# EAGLE library part CVCO55BE (library mr_radar)
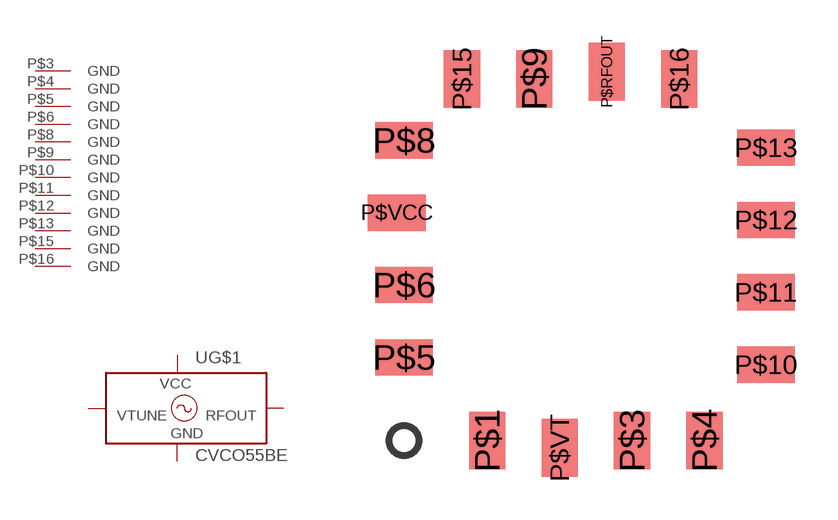
[diagram p0: symbol with the pads of CVCO55BE; footprint CVCO55BE]

Designator prefix -; gates G$1=CCVCO55 G$2=GNDPIN

## CVCO55BE  [CVCO55BE]
P$1  G$1:GND  pwr
P$3  G$2:GND  pwr
P$4  G$2:GND  pwr
P$5  G$2:GND  pwr
P$6  G$2:GND  pwr
P$8  G$2:GND  pwr
P$9  G$2:GND  pwr
P$10  G$2:GND  pwr
P$11  G$2:GND  pwr
P$12  G$2:GND  pwr
P$13  G$2:GND  pwr
P$15  G$2:GND  pwr
P$16  G$2:GND  pwr
P$RFOUT  G$1:RFOUT  in
P$VCC  G$1:VCC  pwr
P$VT  G$1:VTUNE  in

## Footprint CVCO55BE (pad centres in mm)
CVCO55BE
smd 1.27 x 2.032: P$1 -3.429,-6.35; P$3 1.651,-6.35; P$4 4.191,-6.35; P$9 -1.778,6.35; P$15 -4.318,6.35; P$16 3.302,6.35; P$RFOUT 0.762,6.604; P$VT -0.889,-6.604
smd 2.032 x 1.27: P$5 -6.35,-3.429; P$6 -6.35,-0.889; P$8 -6.35,4.191; P$10 6.35,-3.683; P$11 6.35,-1.143; P$12 6.35,1.397; P$13 6.35,3.937; P$VCC -6.604,1.651